# Altium schematic symbol library ESDA6V1-5W6.SchLib: 1 symbol
Pins are listed as number, name and electrical type; pins without a type are passive.

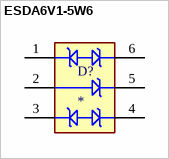
[diagram p0: symbol ESDA6V1-5W6]

## ESDA6V1-5W6
designator D?
- Clamp - Ipp Tvs Diode Surface Mount SOT-323-6L; MF: STMicroelectronics; MP: ESDA6V1-5W6; Package: SOT-323 STMicroelectronics; Price: None; Check_prices: https://www.snapeda.com/parts/ESDA6V1-5W6/STMicroelectronics/view-part/?ref=eda; Value: *; SnapEDA_Link: https://www.snapeda.com/parts/ESDA6V1-5W6/STMicroelectronics/view-part/?ref=snap; Availability: In Stock; Purchase-URL: https://pricing.snapeda.com/search?q=ESDA6V1-5W6&ref=eda
footprint DIO_ESDA6V1-5W6
pins: 1, 2, 3, 4, 5, 6